# Altium integrated library Pi Zero Avionics Rev3.IntLib: 26 symbols
Pins are listed as number, name and electrical type; pins without a type are passive.

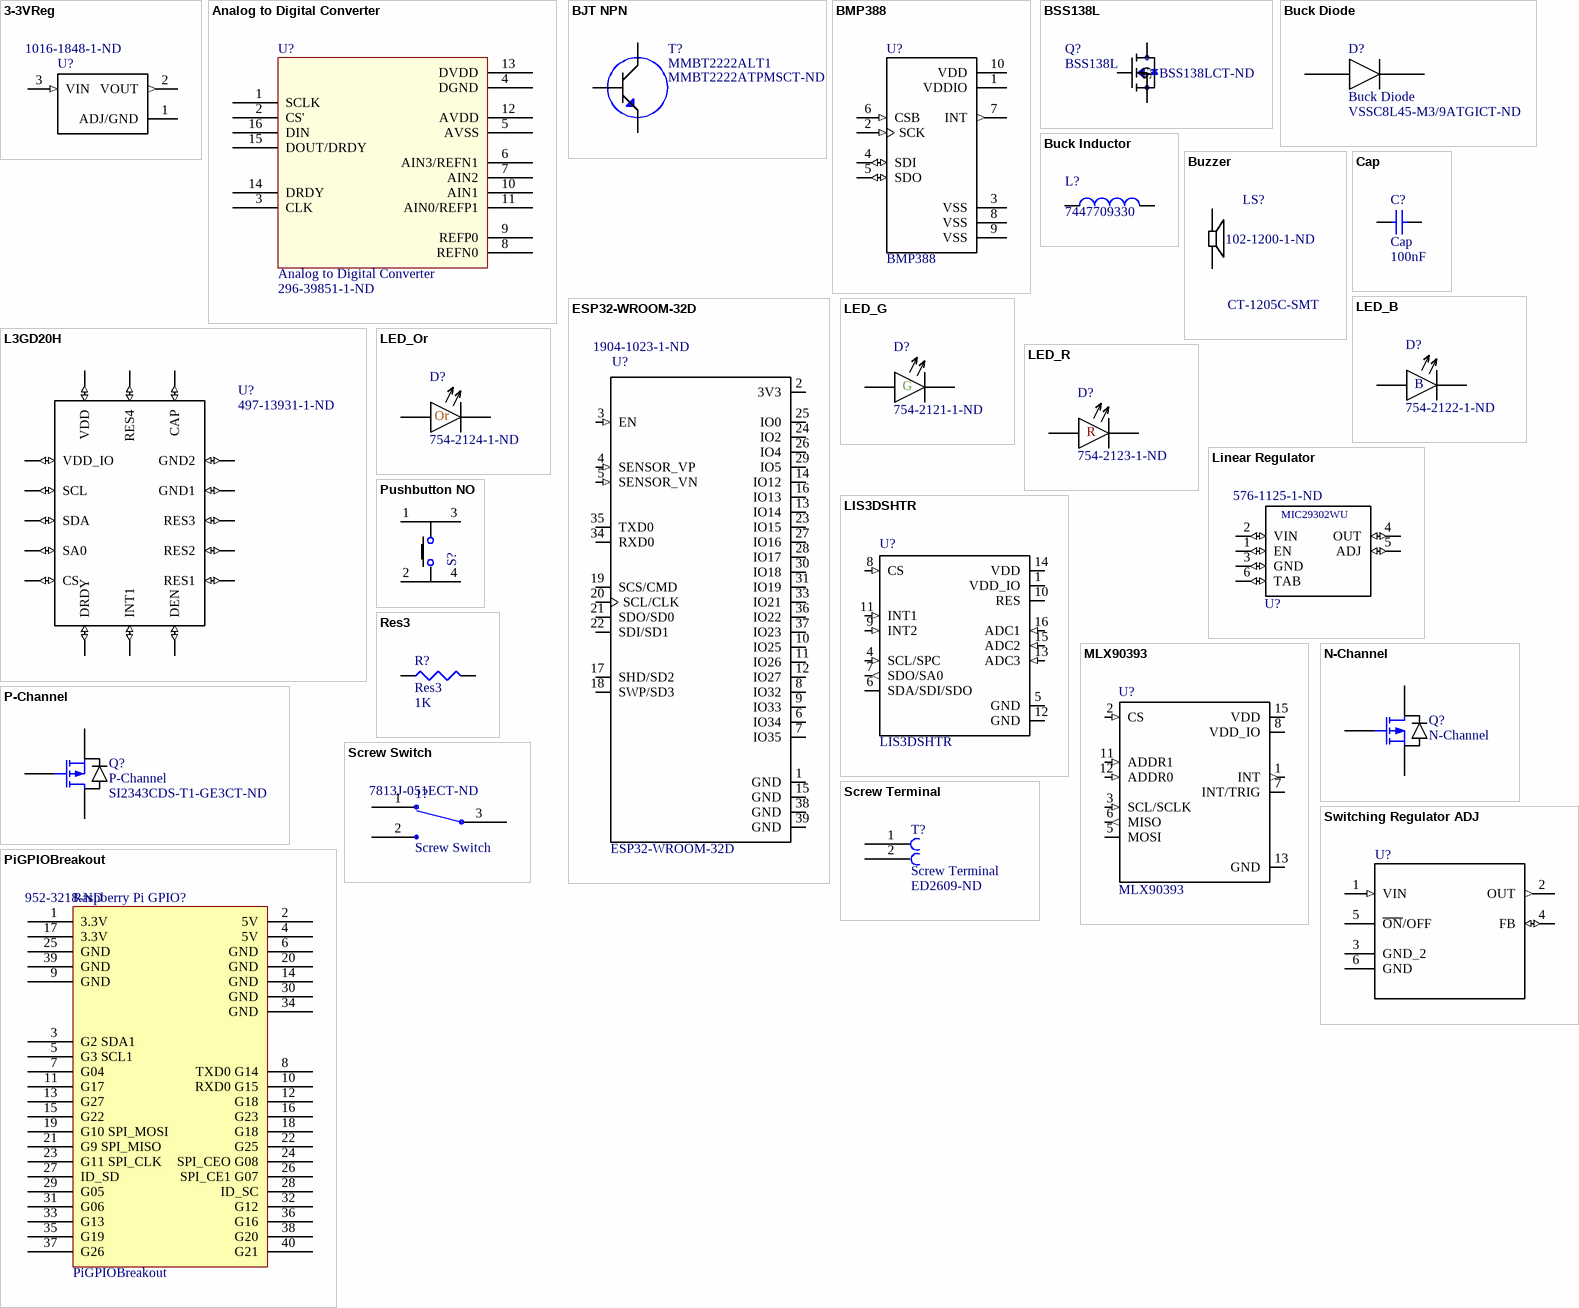
[diagram p0: symbols 3-3VReg to Switching Regulator ADJ]

## 3-3VReg
designator U?, comment Supplier Part Number 1: 1016-1848-1-ND  (hidden comment: SPX1117M3-L-3-3/TR)
SPX1117 Series 3.3 V Fixed Output 800 mA SMT LDO Regulator - SOT-223-3 T/R; MF: MaxLinear, Inc.; Availability: Unavailable; Price: None; Package: SOT-223 Exar; SnapEDA_Link: https://www.snapeda.com/parts/SPX1117M3-L-3-3/TR/MaxLinear%2C%20Inc./view-part/?ref=snap; MP: SPX1117M3-L-3-3/TR; Value: *; Supplier 1: Digi-Key
footprint *SOT230P700X180-3N
pins: 1 ADJ/GND (power), 2 VOUT (out), 3 VIN (in)

## Analog to Digital Converter
designator U?  Supplier Part Number 1: 296-39851-1-ND
SOP65P640X120-16N; Supplier 1: Digi-Key
footprint SOP65P640X120-16N
pins: 1 SCLK, 2 CS', 3 CLK, 4 DGND, 5 AVSS, 6 AIN3/REFN1, 7 AIN2, 8 REFN0, 9 REFP0, 10 AIN1, 11 AIN0/REFP1, 12 AVDD, 13 DVDD, 14 DRDY, 15 DOUT/DRDY, 16 DIN

## BJT NPN
designator T?, comment MMBT2222ALT1  Supplier Part Number 1: MMBT2222ATPMSCT-ND
Trans NPN 40V 0.6A SOT23; MF: ON Semiconductor; SnapEDA_Link: https://www.snapeda.com/parts/MMBT2222ALT1/ON%20Semiconductor/view-part/?ref=snap; Price: None; Availability: Unavailable; MP: MMBT2222ALT1; Package: SOT-23 Motorola; Value: *; Supplier 1: Digi-Key
footprint SOT95P280X125-3N
pins: 1 B, 2 E, 3 C

## BMP388
designator U?
P-Sensor SPI I2C 1, 25 Bar SMD; MF: Bosch Sensortec; Availability: Unavailable; MP: BMP388; SnapEDA_Link: https://www.snapeda.com/parts/BMP388/Bosch%20Sensortec/view-part/?ref=snap; Package: WFLGA-10 Bosch Tools; Price: None; Value: *
footprint PQFN50P200X200X80-10N
pins: 1 VDDIO (power), 2 SCK (in), 3 VSS (power), 4 SDI (io), 5 SDO (io), 6 CSB (in), 7 INT (out), 8 VSS (power), 9 VSS (power), 10 VDD (power)

## BSS138L
designator Q?  Supplier Part Number 1: BSS138LCT-ND
Small Signal MOSFET 50V 200mA 3.5 Ohm Single N-Channel SOT-23 Logic Level; MF: ON Semiconductor; Availability: Unavailable; MP: BSS138L; Price: None; SnapEDA_Link: https://www.snapeda.com/parts/BSS138L/ON%20Semiconductor/view-part/?ref=snap; Package: SOT-23 ON Semiconductor; Value: *; Supplier 1: Digi-Key
footprint *BSS138L_BSS138L(Primary)
pins: D, G, S

## Buck Diode
designator D?  Supplier Part Number 1: VSSC8L45-M3/9ATGICT-ND
Supplier 1: Digi-Key
footprint *DO-214AC
pins: 1 A, 2 C

## Buck Inductor
designator L?, comment 7447709330
Inductor, SMD [WÃ¼rth Elektronik] 7447709330 Inductor, SMD; MF: Wurth Electronics; MP: 7447709330; Availability: Unavailable; SnapEDA_Link: https://www.snapeda.com/parts/7447709330/Wurth%20Electronics%20Inc./view-part/?ref=snap; Price: None; Package: 1210 WÃ¼rth Elektronik; Value: *
footprint *INDM1200X1200X1000N
pins: 1, 2

## Buzzer
designator LS?, comment CT-1205C-SMT  Supplier Part Number 1: 102-1200-1-ND
MF: CUI Inc.; MP: CT-1205C-SMT-TR; Availability: Unavailable; SnapEDA_Link: https://www.snapeda.com/parts/CT-1205C-SMT-TR/CUI%20Inc./view-part/?ref=snap; Package: CUI; Price: None; Value: *; Supplier 1: Digi-Key
footprint CUI_CT-1205C-SMT
pins: 1, 2

## Cap
designator C?  value 100nF
footprint 0603 Footprint
pins: 1, 2

## ESP32-WROOM-32D
designator U?  Supplier Part Number 1: 1904-1023-1-ND
IC: SoC; GPIO, I2C, I2S, IR, SD, SDIO, SPI, UART; 2.7Ã·3.6VDC; 20dBm; MF: Espressif Systems; SnapEDA_Link: https://www.snapeda.com/parts/ESP32-WROOM-32D/Espressif%20Systems/view-part/?ref=snap; Availability: Unavailable; Package: Module Espressif Systems; Price: None; MP: ESP32-WROOM-32D; Value: *; Supplier 1: Digi-Key
footprint *MODULE_ESP32-WROOM-32D
pins: 1 GND (power), 2 3V3 (power), 3 EN (in), 4 SENSOR_VP (in), 5 SENSOR_VN (in), 6 IO34 (io), 7 IO35 (io), 8 IO32 (io), 9 IO33 (io), 10 IO25 (io), 11 IO26 (io), 12 IO27 (io), 13 IO14 (io), 14 IO12 (io), 15 GND (power), 16 IO13 (io), 17 SHD/SD2 (io), 18 SWP/SD3 (io), 19 SCS/CMD (io), 20 SCL/CLK (io), 21 SDO/SD0 (io), 22 SDI/SD1 (io), 23 IO15 (io), 24 IO2 (io), 25 IO0 (io), 26 IO4 (io), 27 IO16 (io), 28 IO17 (io), 29 IO5 (io), 30 IO18 (io), 31 IO19 (io), 33 IO21 (io), 34 RXD0 (io), 35 TXD0 (io), 36 IO22 (io), 37 IO23 (io), 38 GND (power), 39 GND (power)

## L3GD20H
designator U?  Supplier Part Number 1: 497-13931-1-ND  (hidden comment: L3GD20H)
Gyroscope L3GD20H Series 3.6 V 6.1 mA Three-Axis Digital Output Gyroscope - LGA-16; MF: STMicroelectronics; MP: L3GD20HTR; Price: None; Availability: Unavailable; SnapEDA_Link: https://www.snapeda.com/parts/L3GD20HTR/STMicroelectronics/view-part/?ref=snap; Package: LGA-16 STMicroelectronics; Value: *; Supplier 1: Digi-Key
footprint L3GD20HTR
pins: 1 VDD_IO (io), 2 SCL (io), 3 SDA (io), 4 SA0 (io), 5 CS (io), 6 DRDY (io), 7 INT1 (io), 8 DEN (io), 9 RES1 (io), 10 RES2 (io), 11 RES3 (io), 12 GND1 (io), 13 GND2 (io), 14 CAP (io), 15 RES4 (io), 16 VDD (io)

## LED_B
designator D?  Supplier Part Number 1: 754-2122-1-ND  (hidden comment: LED_B)
Supplier 1: Digi-Key
footprint 0402 footprint
pins: 1, 2
text: B

## LED_G
designator D?  Supplier Part Number 1: 754-2121-1-ND  (hidden comment: LED_G)
Supplier 1: Digi-Key
footprint RESC1005X40
footprint 0402 footprint
pins: 1, 2
text: G

## LED_Or
designator D?  Supplier Part Number 1: 754-2124-1-ND  (hidden comment: LED_Or)
Supplier 1: Digi-Key
footprint 0402 footprint
pins: 1, 2
text: Or

## LED_R
designator D?  Supplier Part Number 1: 754-2123-1-ND  (hidden comment: LED_R)
Supplier 1: Digi-Key
footprint 0402 footprint
pins: 1, 2
text: R

## Linear Regulator
designator U?  Supplier Part Number 1: 576-1125-1-ND  (hidden comment: Linear Regulator)
MIC29302 Series 3 A 1.24 to 26 V ADJ Output Voltage LDO Regulator - TO-263-5; MP: MIC29302WU; MF: Microchip; Package: TO-263-5 Microchip; Availability: Unavailable; SnapEDA_Link: https://www.snapeda.com/parts/MIC29302WU/Microchip/view-part/?ref=snap; Price: None; Value: *; Supplier 1: Digi-Key
footprint *TO170P1435X465-6N
pins: 1 EN (io), 2 VIN (io), 3 GND (io), 4 OUT (io), 5 ADJ (io), 6 TAB (io)

## LIS3DSHTR
designator U?
MEMS digital output motion sensor: ultra low-power high performance 3-axes nano accelerometer; MF: STMicroelectronics; Price: None; MP: LIS3DSHTR; Availability: Unavailable; SnapEDA_Link: https://www.snapeda.com/parts/LIS3DSHTR/STMicroelectronics/view-part/?ref=snap; Package: LGA-16 STMicroelectronics; Value: *
footprint LGA16R50P5X3_300X300X100N
pins: 1 VDD_IO (power), 4 SCL/SPC (in), 5 GND (power), 6 SDA/SDI/SDO (io), 7 SDO/SA0 (out), 8 CS (in), 9 INT2 (in), 10 RES (power), 11 INT1 (in), 12 GND (power), 13 ADC3 (in), 14 VDD (power), 15 ADC2 (in), 16 ADC1 (in)

## MLX90393
designator U?
footprint QFN
pins: 1 INT (out), 2 CS (in), 3 SCL/SCLK (in), 5 MOSI (io), 6 MISO (out), 7 INT/TRIG (io), 8 VDD_IO (power), 11 ADDR1 (in), 12 ADDR0 (in), 13 GND (power), 15 VDD (power)

## N-Channel
designator Q?
Supplier 1: Digi-Key; Supplier Part Number 1: SI2338DS-T1-GE3CT-ND
footprint SOT95P280X125-3N
pins: 1 D, 2 G, 3 S

## P-Channel
designator Q?  Supplier Part Number 1: SI2343CDS-T1-GE3CT-ND
Supplier 1: Digi-Key
footprint SOT95P280X125-3N
pins: 1 D, 2 G, 3 S

## PiGPIOBreakout
designator Raspberry Pi GPIO?  Supplier Part Number 1: 952-3218-ND
Supplier 1: Digi-Key
footprint RPI Through board connector
pins: 1 3.3V, 2 5V, 3 G2 SDA1, 4 5V, 5 G3 SCL1, 6 GND, 7 G04, 8 TXD0 G14, 9 GND, 10 RXD0 G15, 11 G17, 12 G18, 13 G27, 14 GND, 15 G22, 16 G23, 17 3.3V, 18 G18, 19 G10 SPI_MOSI, 20 GND, 21 G9 SPI_MISO, 22 G25, 23 G11 SPI_CLK, 24 SPI_CEO G08, 25 GND, 26 SPI_CE1 G07, 27 ID_SD, 28 ID_SC, 29 G05, 30 GND, 31 G06, 32 G12, 33 G13, 34 GND, 35 G19, 36 G16, 37 G26, 38 G20, 39 GND, 40 G21

## Pushbutton NO
designator S?, comment 434153017835  (value not drawn)
Switch Tactile Spst-No 0.05a 12v; MF: Wurth Electronics; Price: None; Package: None; Availability: Unavailable; SnapEDA_Link: https://www.snapeda.com/parts/434153017835/Wurth%20Electronics%20Inc./view-part/?ref=snap; MP: 434153017835; Value: *; Supplier 1: Digi-Key; Supplier Part Number 1: 732-10143-1-ND
footprint *434153017835 (Pushbutton NO)
pins: 1, 2 3, 3 2, 4

## Res3
designator R?  value 1K
Resistor; Published: 8-Jun-2000; LatestRevisionDate: 29-May-2009; LatestRevisionNote: IPC-7351 Footprint Added.; PackageReference: J1-0603; Publisher: Altium Limited; PackageDescription: Chip Resistor
footprint J1-0603 (Chip Resistor, Body 1.6x0.8mm, IPC High Density)
footprint 14-1210 (Chip Resistor, Body 3.2x2.5mm, IPC High Density)
footprint 12Z-2010 (Chip Resistor, Body 5.0x2.5mm, IPC High Density)
footprint RESC6332 (Chip Resistor, Body 6.3x3.2mm, IPC High Density)
simulation model RESISTOR (Resistor)
signal-integrity model Res
pins: 1, 2

## Screw Switch
designator 1?  Supplier Part Number 1: 7813J-051ECT-ND
Supplier 1: Digi-Key
footprint Screw Switch
pins: 1, 2, 3

## Screw Terminal
designator T?  Supplier Part Number 1: ED2609-ND
Supplier 1: Digi-Key
footprint Screw Terminal (Non-Polarized)
pins: 1, 2

## Switching Regulator ADJ
designator U?, comment LM2596SX-ADJ/NOPB  (value not drawn)
SIMPLE SWITCHERÂ® 4.5V to 40V, 3A Low Component Count Step-Down Regulator 5-DDPAK/TO-263 -40 to 125; MF: Texas Instruments; Package: TO-263-6 Texas Instruments; Availability: Unavailable; MP: LM2596SX-ADJ/NOPB; SnapEDA_Link: https://www.snapeda.com/parts/LM2596SX-ADJ/NOPB/Texas%20Instruments/view-part/?ref=snap; Price: None; Value: *; Supplier 1: Digi-Key; Supplier Part Number 1: 296-35399-1-ND
footprint *TO170P1435X465-6N
pins: 1 VIN (in), 2 OUT (out), 3 GND_2, 4 FB (io), 5 ~{ON}/OFF, 6 GND